# EAGLE library part DMP3013SFV-7 (library DMP3013SFV-7)
Trans MOSFET P-CH 30V 12A 8-Pin PowerDI EP T/R Source: Datasheet <https://4donline.ihs.com/images/VipMasterIC/IC/DIOD/DIOD-S-A0008513542/DIOD-S-A0008513542-1.pdf?hkey=52A5661711E402568146F3353EA87419>
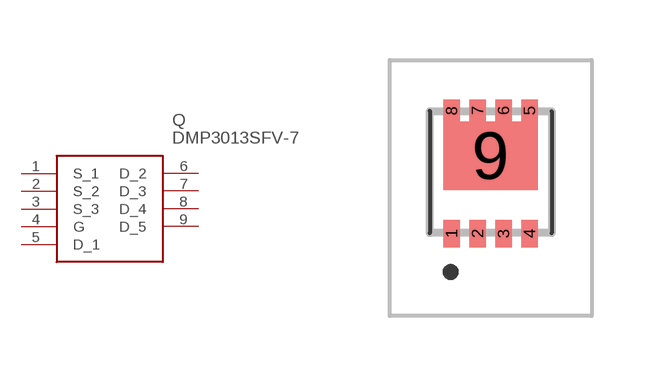
[diagram p0: symbol with the pads of DMP3013SFV7; footprint DMP3013SFV7]

Designator prefix Q

## DMP3013SFV-7 (Description: Trans MOSFET P-CH 30V 12A 8-Pin PowerDI EP T/R; Height: 0.85mm; Manufacturer_Name: Diodes Incorporated; Manufacturer_Part_Number: DMP3013SFV-7; Mouser_Part_Number: 621-DMP3013SFV-7; Mouser_Price-Stock: https://www.mouser.co.uk/ProductDetail/Diodes-Incorporated/DMP3013SFV-7?qs=W0yvOO0ixfH1hnmiAtL1VQ%3D%3D)  [DMP3013SFV7]
1  S_1
2  S_2
3  S_3
4  G
5  D_1
6  D_2
7  D_3
8  D_4
9  D_5

## Footprint DMP3013SFV7 (pad centres in mm)
DMP3013SFV-7-2
smd 0.42 x 0.7: 1 -0.975,0; 2 -0.325,0; 3 0.325,0; 4 0.975,0
smd 0.42 x 0.54: 5 0.975,3.08; 6 0.325,3.08; 7 -0.325,3.08; 8 -0.975,3.08
smd 2.37 x 1.71: 9 0,1.955